# EAGLE library part TIVA-1294 (library MRDT-Microcontrollers)
TIVA C CONNECTED LAUNCHPAD
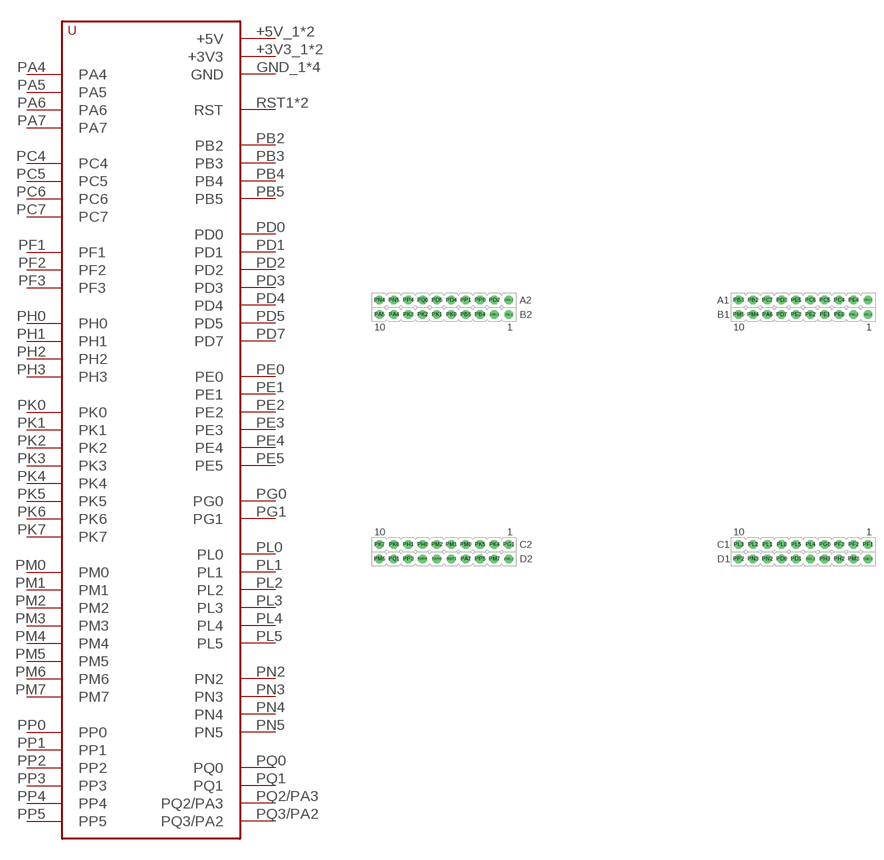
[diagram p2: symbol with the pads of TIVA-C-CONNECTED; footprint TIVA-C-CONNECTED]

Designator prefix U

## TIVA-1294  [TIVA-C-CONNECTED]
+3V3_1  +3V3
+3V3_2  +3V3
+5V_1  +5V
+5V_2  +5V
GND_1  GND
GND_2  GND
GND_3  GND
GND_4  GND
PA4  PA4
PA5  PA5
PA6  PA6
PA7  PA7
PB2  PB2
PB3  PB3
PB4  PB4
PB5  PB5
PC4  PC4
PC5  PC5
PC6  PC6
PC7  PC7
PD0  PD0
PD1  PD1
PD2  PD2
PD3  PD3
PD4  PD4
PD5  PD5
PD7  PD7
PE0  PE0
PE1  PE1
PE2  PE2
PE3  PE3
PE4  PE4
PE5  PE5
PF1  PF1
PF2  PF2
PF3  PF3
PG0  PG0
PG1  PG1
PH0  PH0
PH1  PH1
PH2  PH2
PH3  PH3
PK0  PK0
PK1  PK1
PK2  PK2
PK3  PK3
PK4  PK4
PK5  PK5
PK6  PK6
PK7  PK7
PL0  PL0
PL1  PL1
PL2  PL2
PL3  PL3
PL4  PL4
PL5  PL5
PM0  PM0
PM1  PM1
PM2  PM2
PM3  PM3
PM4  PM4
PM5  PM5
PM6  PM6
PM7  PM7
PN2  PN2
PN3  PN3
PN4  PN4
PN5  PN5
PP0  PP0
PP1  PP1
PP2  PP2
PP3  PP3
PP4  PP4
PP5  PP5
PQ0  PQ0
PQ1  PQ1
PQ2/PA3  PQ2/PA3
PQ3/PA2  PQ3/PA2
RST1  RST
RST_2  RST

## Footprint TIVA-C-CONNECTED (pad centres in mm)
Package for Tiva C Connected development board WARNING: The mounting holes on this board are only for reference. They will not add holes to your design. Add mounting holes at the indicated locations to make holes in your board at these locations.
drill 1.016 octagon: +3V3_1 59.69,54.61; +3V3_2 123.19,54.61; +5V_1 59.69,52.07; +5V_2 123.19,52.07; GND_1 57.15,52.07; GND_2 59.69,8.89; GND_3 120.65,52.07; GND_4 123.19,8.89; PA4 39.37,52.07; PA5 36.83,52.07; PA6 105.41,52.07; PA7 52.07,8.89; PB2 102.87,54.61; PB3 100.33,54.61; PB4 54.61,52.07; PB5 52.07,52.07; PC4 118.11,54.61; PC5 115.57,54.61; PC6 113.03,54.61; PC7 105.41,54.61; PD0 107.95,8.89; PD1 110.49,8.89; PD2 57.15,54.61; PD3 107.95,54.61; PD4 49.53,54.61; PD5 46.99,54.61; PD7 107.95,52.07; PE0 118.11,52.07; PE1 115.57,52.07; PE2 113.03,52.07; PE3 110.49,52.07; PE4 120.65,54.61; PE5 110.49,54.61; PF1 123.19,11.43; PF2 120.65,11.43; PF3 118.11,11.43; PG0 115.57,11.43; PG1 59.69,11.43; PH0 44.45,11.43; PH1 41.91,11.43; PH2 118.11,8.89; PH3 115.57,8.89; PK0 49.53,52.07; PK1 46.99,52.07; PK2 44.45,52.07; PK3 41.91,52.07; PK4 57.15,11.43; PK5 54.61,11.43; PK6 39.37,11.43; PK7 36.83,11.43; PL0 107.95,11.43; PL1 105.41,11.43; PL2 102.87,11.43; PL3 100.33,11.43; PL4 113.03,11.43; PL5 110.49,11.43; PM0 52.07,11.43; PM1 49.53,11.43; PM2 46.99,11.43; PM3 120.65,8.89; PM4 102.87,52.07; PM5 100.33,52.07; PM6 36.83,8.89; PM7 57.15,8.89; PN2 105.41,8.89; PN3 102.87,8.89; PN4 36.83,54.61; PN5 39.37,54.61; PP0 54.61,54.61; PP1 52.07,54.61; PP2 100.33,8.89; PP3 41.91,8.89; PP4 41.91,54.61; PP5 54.61,8.89; PQ0 44.45,54.61; PQ1 39.37,8.89; PQ2/PA3 46.99,8.89; PQ3/PA2 44.45,8.89; RST1 49.53,8.89; RST_2 113.03,8.89